# EAGLE library part 2212P003_PLACEHOLDER (library 2212P003_Placeholder)
Konami SCC 2212P003 Placeholder
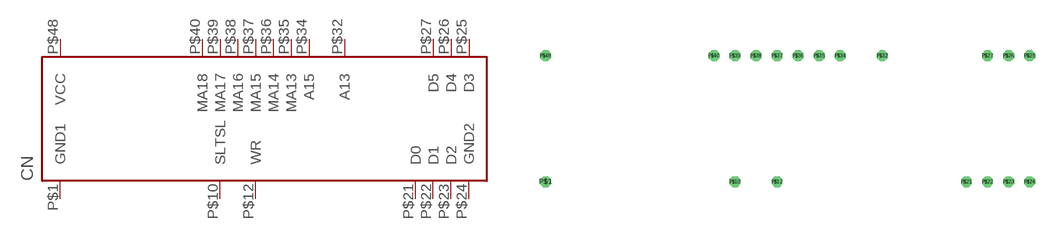
[diagram p0: symbol with the pads of DIP48; footprint DIP48]

Designator prefix CN

## 2212P003_PLACEHOLDERP  [DIP48]
P$1  GND1
P$10  SLTSL
P$12  WR
P$21  D0
P$22  D1
P$23  D2
P$24  GND2
P$25  D3
P$26  D4
P$27  D5
P$32  A13
P$34  A15
P$35  MA13
P$36  MA14
P$37  MA15
P$38  MA16
P$39  MA17
P$40  MA18
P$48  VCC

## Footprint DIP48 (pad centres in mm)
Dual In Line package type P
drill 0.8 octagon: P$1 0,0; P$10 22.86,0; P$12 27.94,0; P$21 50.8,0; P$22 53.34,0; P$23 55.88,0; P$24 58.42,0; P$25 58.42,15.24; P$26 55.88,15.24; P$27 53.34,15.24; P$32 40.64,15.24; P$34 35.56,15.24; P$35 33.02,15.24; P$36 30.48,15.24; P$37 27.94,15.24; P$38 25.4,15.24; P$39 22.86,15.24; P$40 20.32,15.24; P$48 0,15.24